# Altium footprint library SOT91P240X110-3N.PcbLib: 1 footprints
Each footprint in its own frame and in the unit in brackets; x right, y up, seen from the top. Pads: shape width x height; smd on the part's side, far side on the other; paste and mask are expansions set on the pad; w line width, h text height; cw(c..) or ccw(c..) is an arc to the next point about the centre after c.
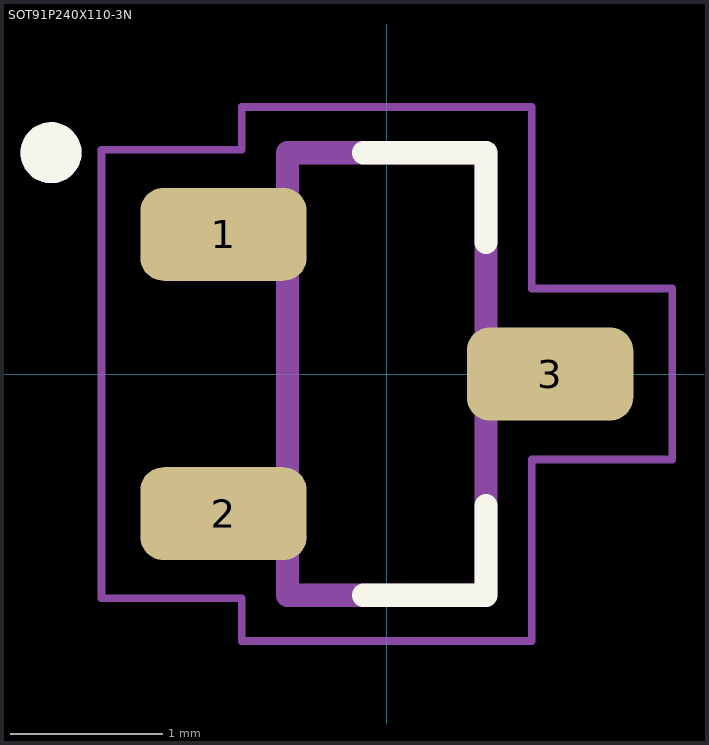
[diagram p0: the footprint, top view; thin cyan lines are the x and y axes]

## SOT91P240X110-3N [mm]
pads (3):
  rrect50% 1.09x0.61 smd: 1(-1.07,0.915) 2(-1.07,-0.915) 3(1.07,0)
Top Overlay:
  circle w0.2: c-2.2,1.45 r0.1
  lines w0.152: -0.152,-1.45 0.65,-1.45 0.65,-0.864 ; -0.152,1.45 0.65,1.45 0.65,0.864
Mechanical 13:
  circle w0.2: c-2.2,1.45 r0.1
  lines w0.152: -0.65,-1.45 0.65,-1.45 0.65,1.45 -0.65,1.45 -0.65,-1.45
Mechanical 15:
  lines w0.05: -1.87,-1.47 -0.95,-1.47 -0.95,-1.75 0.95,-1.75 0.95,-0.56 1.87,-0.56 1.87,0.56 0.95,0.56 0.95,1.75 -0.95,1.75 -0.95,1.47 -1.87,1.47 -1.87,-1.47